# Altium footprint library UPM.PcbLib: 1 footprints
Each footprint in its own frame and in the unit in brackets; x right, y up, seen from the top. Pads: shape width x height; smd on the part's side, far side on the other; paste and mask are expansions set on the pad; w line width, h text height; cw(c..) or ccw(c..) is an arc to the next point about the centre after c.
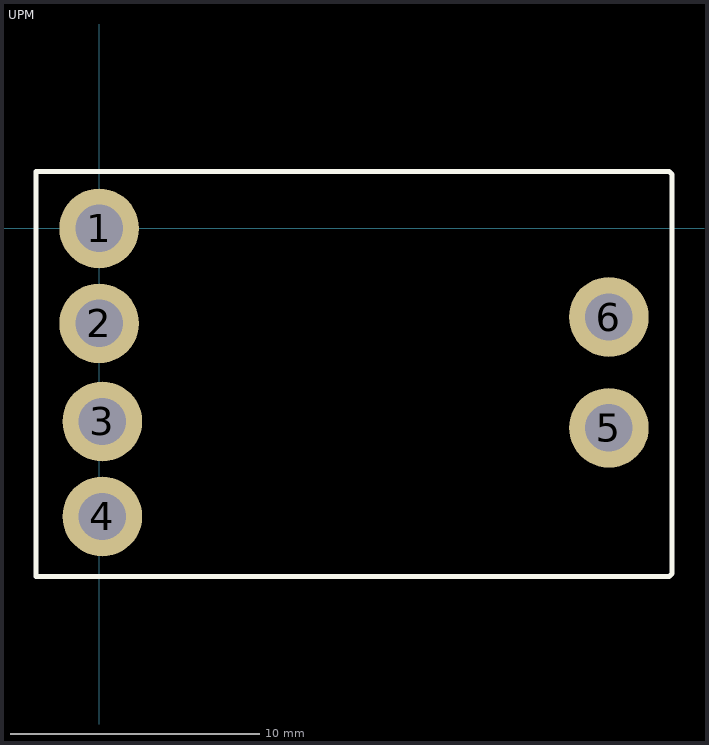
[diagram p0: the footprint, top view; thin cyan lines are the x and y axes]

## UPM [mm]
pads (6):
  round 3.2 hole 1.9: 1(0,0) 2(0,-3.81) 3(0.127,-7.747) 4(0.127,-11.557) 5(20.447,-8.001) 6(20.447,-3.556)
Top Overlay:
  lines w0.203: -2.54,-13.97 22.86,-13.97 22.987,-13.843 22.987,2.159 22.86,2.286 -2.54,2.286 -2.54,-13.97